# Altium schematic symbol library kmilo17pet-LT_ChargePump.SchLib: 599 symbols (part 7 of 29)
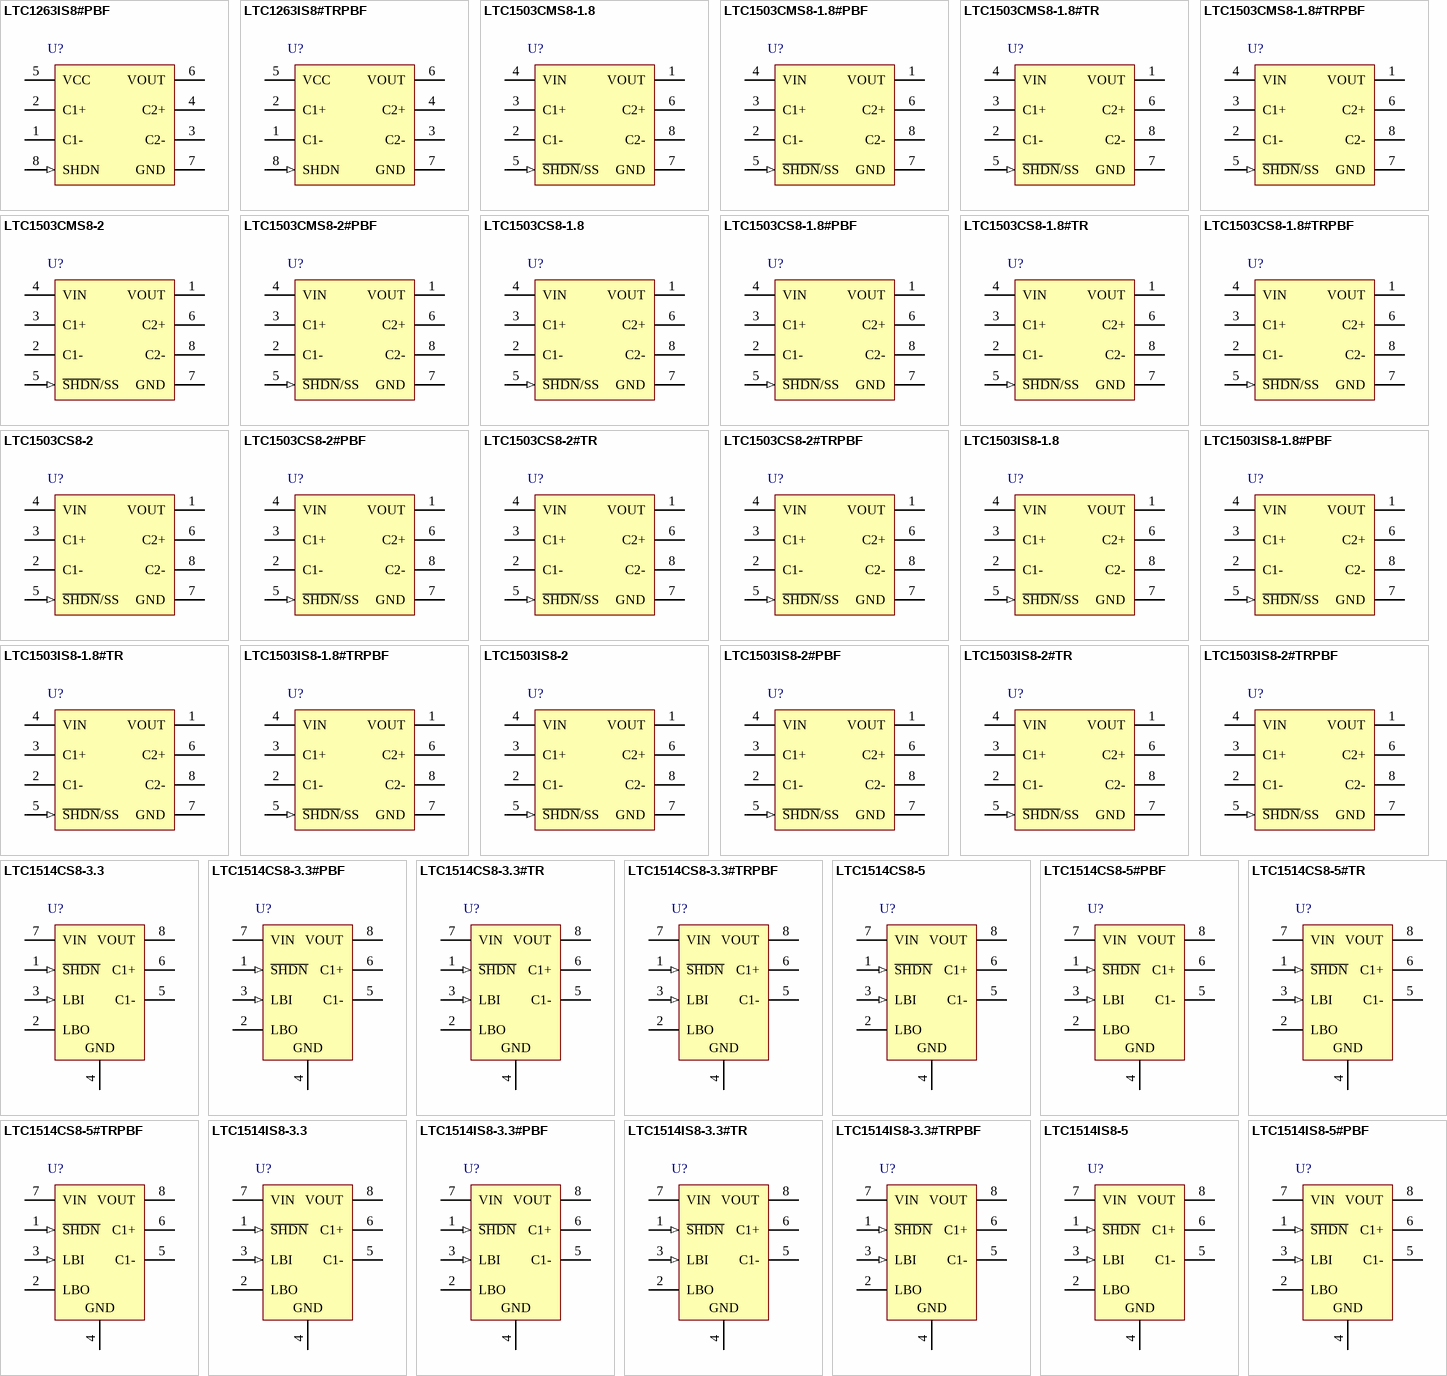
[diagram p22: symbols LTC1263IS8#PBF to LTC1514IS8-5#PBF]

## LTC1503CMS8-2
designator U?
High Efficiency Inductorless Step-Down DC/DC Converter, 2.4 to 6 V Vin, 2 V Vout, 8-pin SOP (MS8-8), -40 to 85 degC; Manufacturer: Linear Technology; PartNumber: LTC1503CMS8-2; Frequency(kHz): 600; Ishutdown(uA): 5; Isupply(mA): 0.025; Max Iout(mA): 100; Vin Max(V): 6; Vin Min(V): 2.4; Voutput: 2V; PackageVersion: Rev. G, 03/2012; PackageReference: MS8-8; PackageDescription: 8-Pin Plastic MSOP, Body 3 x 3 mm, Pitch 0.65 mm; Supplier 1: Digi-Key; Supplier Part Number 1: LTC1503CMS8-2-ND; RoHS: FALSE; Mounting Technology: Surface Mount; ComponentLink1Description: Manufacturer URL; ComponentLink1URL: http://www.linear.com/; ComponentLink2Description: Datasheet; ComponentLink2URL: http://cds.linear.com/docs/en/datasheet/1503f.pdf; ComponentLink3Description: Package Specification; ComponentLink3URL: http://cds.linear.com/docs/en/packaging/05081660_G_MS8.pdf
footprint LT-MS8-8_N (SOP, 8-Leads, Body 3.1x3.1mm, Pitch 0.65mm, IPC Medium Density)
footprint LT-MS8-8_L (SOP, 8-Leads, Body 3.1x3.1mm, Pitch 0.65mm, IPC High Density)
footprint LT-MS8-8_M (SOP, 8-Leads, Body 3.1x3.1mm, Pitch 0.65mm, IPC Low Density)
pins: 1 VOUT (power) "Regulated Output Voltage. VOUT is disconnected from VIN during shutdown. Bypass VOUT to ground with a >=10uF low ESR capacitor.", 2 C1- "Flying Capacitor One Negative Terminal.", 3 C1+ "Flying Capacitor One Positive Terminal.", 4 VIN (power) "Input Voltage. VIN may be between 2.4V and 6V. Bypass VIN to ground with a >=10uF low ESR capacitor.", 5 ~{SHDN}/SS (in) "Shutdown/Soft-Start Control. The pin is designed to be driven with an external open-drain output. Holding the S\H\D\N\/SS pin below 0.25V will force the part into shutdown mode. An internal pull-up current of 2uA will force (See Datasheet)", 6 C2+ "Flying Capacitor Two Positive Terminal.", 7 GND (power) "Ground. Connect to a ground plane for best performance.", 8 C2- "Flying Capacitor Two Negative Terminal."

## LTC1503CMS8-2#PBF
designator U?
High Efficiency Inductorless Step-Down DC/DC Converter, 2.4 to 6 V Vin, 2 V Vout, 8-pin SOP (MS8-8), -40 to 85 degC, Pb-Free; Manufacturer: Linear Technology; PartNumber: LTC1503CMS8-2#PBF; Frequency(kHz): 600; Ishutdown(uA): 5; Isupply(mA): 0.025; Max Iout(mA): 100; Vin Max(V): 6; Vin Min(V): 2.4; Voutput: 2V; PackageVersion: Rev. G, 03/2012; PackageReference: MS8-8; PackageDescription: 8-Pin Plastic MSOP, Body 3 x 3 mm, Pitch 0.65 mm; Supplier 1: Digi-Key; Supplier Part Number 1: LTC1503CMS8-2#PBF-ND; RoHS: TRUE; Mounting Technology: Surface Mount; ComponentLink1Description: Manufacturer URL; ComponentLink1URL: http://www.linear.com/; ComponentLink2Description: Datasheet; ComponentLink2URL: http://cds.linear.com/docs/en/datasheet/1503f.pdf; ComponentLink3Description: Package Specification; ComponentLink3URL: http://cds.linear.com/docs/en/packaging/05081660_G_MS8.pdf
footprint LT-MS8-8_N (SOP, 8-Leads, Body 3.1x3.1mm, Pitch 0.65mm, IPC Medium Density)
footprint LT-MS8-8_L (SOP, 8-Leads, Body 3.1x3.1mm, Pitch 0.65mm, IPC High Density)
footprint LT-MS8-8_M (SOP, 8-Leads, Body 3.1x3.1mm, Pitch 0.65mm, IPC Low Density)
pins: 1 VOUT (power) "Regulated Output Voltage. VOUT is disconnected from VIN during shutdown. Bypass VOUT to ground with a >=10uF low ESR capacitor.", 2 C1- "Flying Capacitor One Negative Terminal.", 3 C1+ "Flying Capacitor One Positive Terminal.", 4 VIN (power) "Input Voltage. VIN may be between 2.4V and 6V. Bypass VIN to ground with a >=10uF low ESR capacitor.", 5 ~{SHDN}/SS (in) "Shutdown/Soft-Start Control. The pin is designed to be driven with an external open-drain output. Holding the S\H\D\N\/SS pin below 0.25V will force the part into shutdown mode. An internal pull-up current of 2uA will force (See Datasheet)", 6 C2+ "Flying Capacitor Two Positive Terminal.", 7 GND (power) "Ground. Connect to a ground plane for best performance.", 8 C2- "Flying Capacitor Two Negative Terminal."

## LTC1503CS8-1.8
designator U?
High Efficiency Inductorless Step-Down DC/DC Converter, 2.4 to 6 V Vin, 1.8 V Vout, 8-pin SOIC (S8-8), -40 to 85 degC; Manufacturer: Linear Technology; PartNumber: LTC1503CS8-1.8; Frequency(kHz): 600; Ishutdown(uA): 5; Isupply(mA): 0.025; Max Iout(mA): 100; Vin Max(V): 6; Vin Min(V): 2.4; Voutput: 1.8V; PackageVersion: Rev. G, 03/2012; PackageReference: S8-8; PackageDescription: 8-Pin Plastic Small Outline (Narrow .150 Inch), Body 4.9 x 3.9 mm, Pitch 1.27 mm; Supplier 1: Digi-Key; Supplier Part Number 1: LTC1503CS8-1.8-ND; RoHS: FALSE; Mounting Technology: Surface Mount; ComponentLink1Description: Manufacturer URL; ComponentLink1URL: http://www.linear.com/; ComponentLink2Description: Datasheet; ComponentLink2URL: http://cds.linear.com/docs/en/datasheet/1503f.pdf; ComponentLink3Description: Package Specification; ComponentLink3URL: http://cds.linear.com/docs/en/packaging/05081610_G_SO8.pdf
footprint LT-S8-8_N (SOIC, 8-Leads, Body 5x4mm, Pitch 1.27mm, IPC Medium Density)
footprint LT-S8-8_L (SOIC, 8-Leads, Body 5x4mm, Pitch 1.27mm, IPC High Density)
footprint LT-S8-8_M (SOIC, 8-Leads, Body 5x4mm, Pitch 1.27mm, IPC Low Density)
pins: 1 VOUT (power) "Regulated Output Voltage. VOUT is disconnected from VIN during shutdown. Bypass VOUT to ground with a >=10uF low ESR capacitor.", 2 C1- "Flying Capacitor One Negative Terminal.", 3 C1+ "Flying Capacitor One Positive Terminal.", 4 VIN (power) "Input Voltage. VIN may be between 2.4V and 6V. Bypass VIN to ground with a >=10uF low ESR capacitor.", 5 ~{SHDN}/SS (in) "Shutdown/Soft-Start Control. The pin is designed to be driven with an external open-drain output. Holding the S\H\D\N\/SS pin below 0.25V will force the part into shutdown mode. An internal pull-up current of 2uA will force (See Datasheet)", 6 C2+ "Flying Capacitor Two Positive Terminal.", 7 GND (power) "Ground. Connect to a ground plane for best performance.", 8 C2- "Flying Capacitor Two Negative Terminal."

## LTC1503CS8-1.8#PBF
designator U?
High Efficiency Inductorless Step-Down DC/DC Converter, 2.4 to 6 V Vin, 1.8 V Vout, 8-pin SOIC (S8-8), -40 to 85 degC, Pb-Free; Manufacturer: Linear Technology; PartNumber: LTC1503CS8-1.8#PBF; Frequency(kHz): 600; Ishutdown(uA): 5; Isupply(mA): 0.025; Max Iout(mA): 100; Vin Max(V): 6; Vin Min(V): 2.4; Voutput: 1.8V; PackageVersion: Rev. G, 03/2012; PackageReference: S8-8; PackageDescription: 8-Pin Plastic Small Outline (Narrow .150 Inch), Body 4.9 x 3.9 mm, Pitch 1.27 mm; Supplier 1: Digi-Key; Supplier Part Number 1: LTC1503CS8-1.8#PBF-ND; RoHS: TRUE; Mounting Technology: Surface Mount; ComponentLink1Description: Manufacturer URL; ComponentLink1URL: http://www.linear.com/; ComponentLink2Description: Datasheet; ComponentLink2URL: http://cds.linear.com/docs/en/datasheet/1503f.pdf; ComponentLink3Description: Package Specification; ComponentLink3URL: http://cds.linear.com/docs/en/packaging/05081610_G_SO8.pdf
footprint LT-S8-8_N (SOIC, 8-Leads, Body 5x4mm, Pitch 1.27mm, IPC Medium Density)
footprint LT-S8-8_L (SOIC, 8-Leads, Body 5x4mm, Pitch 1.27mm, IPC High Density)
footprint LT-S8-8_M (SOIC, 8-Leads, Body 5x4mm, Pitch 1.27mm, IPC Low Density)
pins: 1 VOUT (power) "Regulated Output Voltage. VOUT is disconnected from VIN during shutdown. Bypass VOUT to ground with a >=10uF low ESR capacitor.", 2 C1- "Flying Capacitor One Negative Terminal.", 3 C1+ "Flying Capacitor One Positive Terminal.", 4 VIN (power) "Input Voltage. VIN may be between 2.4V and 6V. Bypass VIN to ground with a >=10uF low ESR capacitor.", 5 ~{SHDN}/SS (in) "Shutdown/Soft-Start Control. The pin is designed to be driven with an external open-drain output. Holding the S\H\D\N\/SS pin below 0.25V will force the part into shutdown mode. An internal pull-up current of 2uA will force (See Datasheet)", 6 C2+ "Flying Capacitor Two Positive Terminal.", 7 GND (power) "Ground. Connect to a ground plane for best performance.", 8 C2- "Flying Capacitor Two Negative Terminal."

## LTC1503CS8-1.8#TR
designator U?
High Efficiency Inductorless Step-Down DC/DC Converter, 2.4 to 6 V Vin, 1.8 V Vout, 8-pin SOIC (S8-8), -40 to 85 degC, Tape and Reel; Manufacturer: Linear Technology; PartNumber: LTC1503CS8-1.8#TR; Frequency(kHz): 600; Ishutdown(uA): 5; Isupply(mA): 0.025; Max Iout(mA): 100; Vin Max(V): 6; Vin Min(V): 2.4; Voutput: 1.8V; PackageVersion: Rev. G, 03/2012; PackageReference: S8-8; PackageDescription: 8-Pin Plastic Small Outline (Narrow .150 Inch), Body 4.9 x 3.9 mm, Pitch 1.27 mm; Supplier 1: Digi-Key; Supplier Part Number 1: LTC1503CS8-1.8#TR-ND; Packing: Tape and Reel; RoHS: FALSE; Mounting Technology: Surface Mount; ComponentLink1Description: Manufacturer URL; ComponentLink1URL: http://www.linear.com/; ComponentLink2Description: Datasheet; ComponentLink2URL: http://cds.linear.com/docs/en/datasheet/1503f.pdf; ComponentLink3Description: Package Specification; ComponentLink3URL: http://cds.linear.com/docs/en/packaging/05081610_G_SO8.pdf
footprint LT-S8-8_N (SOIC, 8-Leads, Body 5x4mm, Pitch 1.27mm, IPC Medium Density)
footprint LT-S8-8_L (SOIC, 8-Leads, Body 5x4mm, Pitch 1.27mm, IPC High Density)
footprint LT-S8-8_M (SOIC, 8-Leads, Body 5x4mm, Pitch 1.27mm, IPC Low Density)
pins: 1 VOUT (power) "Regulated Output Voltage. VOUT is disconnected from VIN during shutdown. Bypass VOUT to ground with a >=10uF low ESR capacitor.", 2 C1- "Flying Capacitor One Negative Terminal.", 3 C1+ "Flying Capacitor One Positive Terminal.", 4 VIN (power) "Input Voltage. VIN may be between 2.4V and 6V. Bypass VIN to ground with a >=10uF low ESR capacitor.", 5 ~{SHDN}/SS (in) "Shutdown/Soft-Start Control. The pin is designed to be driven with an external open-drain output. Holding the S\H\D\N\/SS pin below 0.25V will force the part into shutdown mode. An internal pull-up current of 2uA will force (See Datasheet)", 6 C2+ "Flying Capacitor Two Positive Terminal.", 7 GND (power) "Ground. Connect to a ground plane for best performance.", 8 C2- "Flying Capacitor Two Negative Terminal."

## LTC1503CS8-1.8#TRPBF
designator U?
High Efficiency Inductorless Step-Down DC/DC Converter, 2.4 to 6 V Vin, 1.8 V Vout, 8-pin SOIC (S8-8), -40 to 85 degC, Pb-Free, Tape and Reel; Manufacturer: Linear Technology; PartNumber: LTC1503CS8-1.8#TRPBF; Frequency(kHz): 600; Ishutdown(uA): 5; Isupply(mA): 0.025; Max Iout(mA): 100; Vin Max(V): 6; Vin Min(V): 2.4; Voutput: 1.8V; PackageVersion: Rev. G, 03/2012; PackageReference: S8-8; PackageDescription: 8-Pin Plastic Small Outline (Narrow .150 Inch), Body 4.9 x 3.9 mm, Pitch 1.27 mm; Supplier 1: Digi-Key; Supplier Part Number 1: LTC1503CS8-1.8#TRPBF-ND; Packing: Tape and Reel; RoHS: TRUE; Mounting Technology: Surface Mount; ComponentLink1Description: Manufacturer URL; ComponentLink1URL: http://www.linear.com/; ComponentLink2Description: Datasheet; ComponentLink2URL: http://cds.linear.com/docs/en/datasheet/1503f.pdf; ComponentLink3Description: Package Specification; ComponentLink3URL: http://cds.linear.com/docs/en/packaging/05081610_G_SO8.pdf
footprint LT-S8-8_N (SOIC, 8-Leads, Body 5x4mm, Pitch 1.27mm, IPC Medium Density)
footprint LT-S8-8_L (SOIC, 8-Leads, Body 5x4mm, Pitch 1.27mm, IPC High Density)
footprint LT-S8-8_M (SOIC, 8-Leads, Body 5x4mm, Pitch 1.27mm, IPC Low Density)
pins: 1 VOUT (power) "Regulated Output Voltage. VOUT is disconnected from VIN during shutdown. Bypass VOUT to ground with a >=10uF low ESR capacitor.", 2 C1- "Flying Capacitor One Negative Terminal.", 3 C1+ "Flying Capacitor One Positive Terminal.", 4 VIN (power) "Input Voltage. VIN may be between 2.4V and 6V. Bypass VIN to ground with a >=10uF low ESR capacitor.", 5 ~{SHDN}/SS (in) "Shutdown/Soft-Start Control. The pin is designed to be driven with an external open-drain output. Holding the S\H\D\N\/SS pin below 0.25V will force the part into shutdown mode. An internal pull-up current of 2uA will force (See Datasheet)", 6 C2+ "Flying Capacitor Two Positive Terminal.", 7 GND (power) "Ground. Connect to a ground plane for best performance.", 8 C2- "Flying Capacitor Two Negative Terminal."

## LTC1503CS8-2
designator U?
High Efficiency Inductorless Step-Down DC/DC Converter, 2.4 to 6 V Vin, 2 V Vout, 8-pin SOIC (S8-8), -40 to 85 degC; Manufacturer: Linear Technology; PartNumber: LTC1503CS8-2; Frequency(kHz): 600; Ishutdown(uA): 5; Isupply(mA): 0.025; Max Iout(mA): 100; Vin Max(V): 6; Vin Min(V): 2.4; Voutput: 2V; PackageVersion: Rev. G, 03/2012; PackageReference: S8-8; PackageDescription: 8-Pin Plastic Small Outline (Narrow .150 Inch), Body 4.9 x 3.9 mm, Pitch 1.27 mm; Supplier 1: Digi-Key; Supplier Part Number 1: LTC1503CS8-2-ND; RoHS: FALSE; Mounting Technology: Surface Mount; ComponentLink1Description: Manufacturer URL; ComponentLink1URL: http://www.linear.com/; ComponentLink2Description: Datasheet; ComponentLink2URL: http://cds.linear.com/docs/en/datasheet/1503f.pdf; ComponentLink3Description: Package Specification; ComponentLink3URL: http://cds.linear.com/docs/en/packaging/05081610_G_SO8.pdf
footprint LT-S8-8_N (SOIC, 8-Leads, Body 5x4mm, Pitch 1.27mm, IPC Medium Density)
footprint LT-S8-8_L (SOIC, 8-Leads, Body 5x4mm, Pitch 1.27mm, IPC High Density)
footprint LT-S8-8_M (SOIC, 8-Leads, Body 5x4mm, Pitch 1.27mm, IPC Low Density)
pins: 1 VOUT (power) "Regulated Output Voltage. VOUT is disconnected from VIN during shutdown. Bypass VOUT to ground with a >=10uF low ESR capacitor.", 2 C1- "Flying Capacitor One Negative Terminal.", 3 C1+ "Flying Capacitor One Positive Terminal.", 4 VIN (power) "Input Voltage. VIN may be between 2.4V and 6V. Bypass VIN to ground with a >=10uF low ESR capacitor.", 5 ~{SHDN}/SS (in) "Shutdown/Soft-Start Control. The pin is designed to be driven with an external open-drain output. Holding the S\H\D\N\/SS pin below 0.25V will force the part into shutdown mode. An internal pull-up current of 2uA will force (See Datasheet)", 6 C2+ "Flying Capacitor Two Positive Terminal.", 7 GND (power) "Ground. Connect to a ground plane for best performance.", 8 C2- "Flying Capacitor Two Negative Terminal."

## LTC1503CS8-2#PBF
designator U?
High Efficiency Inductorless Step-Down DC/DC Converter, 2.4 to 6 V Vin, 2 V Vout, 8-pin SOIC (S8-8), -40 to 85 degC, Pb-Free; Manufacturer: Linear Technology; PartNumber: LTC1503CS8-2#PBF; Frequency(kHz): 600; Ishutdown(uA): 5; Isupply(mA): 0.025; Max Iout(mA): 100; Vin Max(V): 6; Vin Min(V): 2.4; Voutput: 2V; PackageVersion: Rev. G, 03/2012; PackageReference: S8-8; PackageDescription: 8-Pin Plastic Small Outline (Narrow .150 Inch), Body 4.9 x 3.9 mm, Pitch 1.27 mm; Supplier 1: Digi-Key; Supplier Part Number 1: LTC1503CS8-2#PBF-ND; RoHS: TRUE; Mounting Technology: Surface Mount; ComponentLink1Description: Manufacturer URL; ComponentLink1URL: http://www.linear.com/; ComponentLink2Description: Datasheet; ComponentLink2URL: http://cds.linear.com/docs/en/datasheet/1503f.pdf; ComponentLink3Description: Package Specification; ComponentLink3URL: http://cds.linear.com/docs/en/packaging/05081610_G_SO8.pdf
footprint LT-S8-8_N (SOIC, 8-Leads, Body 5x4mm, Pitch 1.27mm, IPC Medium Density)
footprint LT-S8-8_L (SOIC, 8-Leads, Body 5x4mm, Pitch 1.27mm, IPC High Density)
footprint LT-S8-8_M (SOIC, 8-Leads, Body 5x4mm, Pitch 1.27mm, IPC Low Density)
pins: 1 VOUT (power) "Regulated Output Voltage. VOUT is disconnected from VIN during shutdown. Bypass VOUT to ground with a >=10uF low ESR capacitor.", 2 C1- "Flying Capacitor One Negative Terminal.", 3 C1+ "Flying Capacitor One Positive Terminal.", 4 VIN (power) "Input Voltage. VIN may be between 2.4V and 6V. Bypass VIN to ground with a >=10uF low ESR capacitor.", 5 ~{SHDN}/SS (in) "Shutdown/Soft-Start Control. The pin is designed to be driven with an external open-drain output. Holding the S\H\D\N\/SS pin below 0.25V will force the part into shutdown mode. An internal pull-up current of 2uA will force (See Datasheet)", 6 C2+ "Flying Capacitor Two Positive Terminal.", 7 GND (power) "Ground. Connect to a ground plane for best performance.", 8 C2- "Flying Capacitor Two Negative Terminal."

## LTC1503CS8-2#TR
designator U?
High Efficiency Inductorless Step-Down DC/DC Converter, 2.4 to 6 V Vin, 2 V Vout, 8-pin SOIC (S8-8), -40 to 85 degC, Tape and Reel; Manufacturer: Linear Technology; PartNumber: LTC1503CS8-2#TR; Frequency(kHz): 600; Ishutdown(uA): 5; Isupply(mA): 0.025; Max Iout(mA): 100; Vin Max(V): 6; Vin Min(V): 2.4; Voutput: 2V; PackageVersion: Rev. G, 03/2012; PackageReference: S8-8; PackageDescription: 8-Pin Plastic Small Outline (Narrow .150 Inch), Body 4.9 x 3.9 mm, Pitch 1.27 mm; Supplier 1: Digi-Key; Supplier Part Number 1: LTC1503CS8-2#TR-ND; Packing: Tape and Reel; RoHS: FALSE; Mounting Technology: Surface Mount; ComponentLink1Description: Manufacturer URL; ComponentLink1URL: http://www.linear.com/; ComponentLink2Description: Datasheet; ComponentLink2URL: http://cds.linear.com/docs/en/datasheet/1503f.pdf; ComponentLink3Description: Package Specification; ComponentLink3URL: http://cds.linear.com/docs/en/packaging/05081610_G_SO8.pdf
footprint LT-S8-8_N (SOIC, 8-Leads, Body 5x4mm, Pitch 1.27mm, IPC Medium Density)
footprint LT-S8-8_L (SOIC, 8-Leads, Body 5x4mm, Pitch 1.27mm, IPC High Density)
footprint LT-S8-8_M (SOIC, 8-Leads, Body 5x4mm, Pitch 1.27mm, IPC Low Density)
pins: 1 VOUT (power) "Regulated Output Voltage. VOUT is disconnected from VIN during shutdown. Bypass VOUT to ground with a >=10uF low ESR capacitor.", 2 C1- "Flying Capacitor One Negative Terminal.", 3 C1+ "Flying Capacitor One Positive Terminal.", 4 VIN (power) "Input Voltage. VIN may be between 2.4V and 6V. Bypass VIN to ground with a >=10uF low ESR capacitor.", 5 ~{SHDN}/SS (in) "Shutdown/Soft-Start Control. The pin is designed to be driven with an external open-drain output. Holding the S\H\D\N\/SS pin below 0.25V will force the part into shutdown mode. An internal pull-up current of 2uA will force (See Datasheet)", 6 C2+ "Flying Capacitor Two Positive Terminal.", 7 GND (power) "Ground. Connect to a ground plane for best performance.", 8 C2- "Flying Capacitor Two Negative Terminal."

## LTC1503CS8-2#TRPBF
designator U?
High Efficiency Inductorless Step-Down DC/DC Converter, 2.4 to 6 V Vin, 2 V Vout, 8-pin SOIC (S8-8), -40 to 85 degC, Pb-Free, Tape and Reel; Manufacturer: Linear Technology; PartNumber: LTC1503CS8-2#TRPBF; Frequency(kHz): 600; Ishutdown(uA): 5; Isupply(mA): 0.025; Max Iout(mA): 100; Vin Max(V): 6; Vin Min(V): 2.4; Voutput: 2V; PackageVersion: Rev. G, 03/2012; PackageReference: S8-8; PackageDescription: 8-Pin Plastic Small Outline (Narrow .150 Inch), Body 4.9 x 3.9 mm, Pitch 1.27 mm; Supplier 1: Digi-Key; Supplier Part Number 1: LTC1503CS8-2#TRPBF-ND; Packing: Tape and Reel; RoHS: TRUE; Mounting Technology: Surface Mount; ComponentLink1Description: Manufacturer URL; ComponentLink1URL: http://www.linear.com/; ComponentLink2Description: Datasheet; ComponentLink2URL: http://cds.linear.com/docs/en/datasheet/1503f.pdf; ComponentLink3Description: Package Specification; ComponentLink3URL: http://cds.linear.com/docs/en/packaging/05081610_G_SO8.pdf
footprint LT-S8-8_N (SOIC, 8-Leads, Body 5x4mm, Pitch 1.27mm, IPC Medium Density)
footprint LT-S8-8_L (SOIC, 8-Leads, Body 5x4mm, Pitch 1.27mm, IPC High Density)
footprint LT-S8-8_M (SOIC, 8-Leads, Body 5x4mm, Pitch 1.27mm, IPC Low Density)
pins: 1 VOUT (power) "Regulated Output Voltage. VOUT is disconnected from VIN during shutdown. Bypass VOUT to ground with a >=10uF low ESR capacitor.", 2 C1- "Flying Capacitor One Negative Terminal.", 3 C1+ "Flying Capacitor One Positive Terminal.", 4 VIN (power) "Input Voltage. VIN may be between 2.4V and 6V. Bypass VIN to ground with a >=10uF low ESR capacitor.", 5 ~{SHDN}/SS (in) "Shutdown/Soft-Start Control. The pin is designed to be driven with an external open-drain output. Holding the S\H\D\N\/SS pin below 0.25V will force the part into shutdown mode. An internal pull-up current of 2uA will force (See Datasheet)", 6 C2+ "Flying Capacitor Two Positive Terminal.", 7 GND (power) "Ground. Connect to a ground plane for best performance.", 8 C2- "Flying Capacitor Two Negative Terminal."

## LTC1503IS8-1.8
designator U?
High Efficiency Inductorless Step-Down DC/DC Converter, 2.4 to 6 V Vin, 1.8 V Vout, 8-pin SOIC (S8-8), -40 to 85 degC; Manufacturer: Linear Technology; PartNumber: LTC1503IS8-1.8; Frequency(kHz): 600; Ishutdown(uA): 5; Isupply(mA): 0.025; Max Iout(mA): 100; Vin Max(V): 6; Vin Min(V): 2.4; Voutput: 1.8V; PackageVersion: Rev. G, 03/2012; PackageReference: S8-8; PackageDescription: 8-Pin Plastic Small Outline (Narrow .150 Inch), Body 4.9 x 3.9 mm, Pitch 1.27 mm; Supplier 1: Digi-Key; Supplier Part Number 1: LTC1503IS8-1.8-ND; RoHS: FALSE; Mounting Technology: Surface Mount; ComponentLink1Description: Manufacturer URL; ComponentLink1URL: http://www.linear.com/; ComponentLink2Description: Datasheet; ComponentLink2URL: http://cds.linear.com/docs/en/datasheet/1503f.pdf; ComponentLink3Description: Package Specification; ComponentLink3URL: http://cds.linear.com/docs/en/packaging/05081610_G_SO8.pdf
footprint LT-S8-8_N (SOIC, 8-Leads, Body 5x4mm, Pitch 1.27mm, IPC Medium Density)
footprint LT-S8-8_L (SOIC, 8-Leads, Body 5x4mm, Pitch 1.27mm, IPC High Density)
footprint LT-S8-8_M (SOIC, 8-Leads, Body 5x4mm, Pitch 1.27mm, IPC Low Density)
pins: 1 VOUT (power) "Regulated Output Voltage. VOUT is disconnected from VIN during shutdown. Bypass VOUT to ground with a >=10uF low ESR capacitor.", 2 C1- "Flying Capacitor One Negative Terminal.", 3 C1+ "Flying Capacitor One Positive Terminal.", 4 VIN (power) "Input Voltage. VIN may be between 2.4V and 6V. Bypass VIN to ground with a >=10uF low ESR capacitor.", 5 ~{SHDN}/SS (in) "Shutdown/Soft-Start Control. The pin is designed to be driven with an external open-drain output. Holding the S\H\D\N\/SS pin below 0.25V will force the part into shutdown mode. An internal pull-up current of 2uA will force (See Datasheet)", 6 C2+ "Flying Capacitor Two Positive Terminal.", 7 GND (power) "Ground. Connect to a ground plane for best performance.", 8 C2- "Flying Capacitor Two Negative Terminal."

## LTC1503IS8-1.8#PBF
designator U?
High Efficiency Inductorless Step-Down DC/DC Converter, 2.4 to 6 V Vin, 1.8 V Vout, 8-pin SOIC (S8-8), -40 to 85 degC, Pb-Free; Manufacturer: Linear Technology; PartNumber: LTC1503IS8-1.8#PBF; Frequency(kHz): 600; Ishutdown(uA): 5; Isupply(mA): 0.025; Max Iout(mA): 100; Vin Max(V): 6; Vin Min(V): 2.4; Voutput: 1.8V; PackageVersion: Rev. G, 03/2012; PackageReference: S8-8; PackageDescription: 8-Pin Plastic Small Outline (Narrow .150 Inch), Body 4.9 x 3.9 mm, Pitch 1.27 mm; Supplier 1: Digi-Key; Supplier Part Number 1: LTC1503IS8-1.8#PBF-ND; RoHS: TRUE; Mounting Technology: Surface Mount; ComponentLink1Description: Manufacturer URL; ComponentLink1URL: http://www.linear.com/; ComponentLink2Description: Datasheet; ComponentLink2URL: http://cds.linear.com/docs/en/datasheet/1503f.pdf; ComponentLink3Description: Package Specification; ComponentLink3URL: http://cds.linear.com/docs/en/packaging/05081610_G_SO8.pdf
footprint LT-S8-8_N (SOIC, 8-Leads, Body 5x4mm, Pitch 1.27mm, IPC Medium Density)
footprint LT-S8-8_L (SOIC, 8-Leads, Body 5x4mm, Pitch 1.27mm, IPC High Density)
footprint LT-S8-8_M (SOIC, 8-Leads, Body 5x4mm, Pitch 1.27mm, IPC Low Density)
pins: 1 VOUT (power) "Regulated Output Voltage. VOUT is disconnected from VIN during shutdown. Bypass VOUT to ground with a >=10uF low ESR capacitor.", 2 C1- "Flying Capacitor One Negative Terminal.", 3 C1+ "Flying Capacitor One Positive Terminal.", 4 VIN (power) "Input Voltage. VIN may be between 2.4V and 6V. Bypass VIN to ground with a >=10uF low ESR capacitor.", 5 ~{SHDN}/SS (in) "Shutdown/Soft-Start Control. The pin is designed to be driven with an external open-drain output. Holding the S\H\D\N\/SS pin below 0.25V will force the part into shutdown mode. An internal pull-up current of 2uA will force (See Datasheet)", 6 C2+ "Flying Capacitor Two Positive Terminal.", 7 GND (power) "Ground. Connect to a ground plane for best performance.", 8 C2- "Flying Capacitor Two Negative Terminal."

## LTC1503IS8-1.8#TR
designator U?
High Efficiency Inductorless Step-Down DC/DC Converter, 2.4 to 6 V Vin, 1.8 V Vout, 8-pin SOIC (S8-8), -40 to 85 degC, Tape and Reel; Manufacturer: Linear Technology; PartNumber: LTC1503IS8-1.8#TR; Frequency(kHz): 600; Ishutdown(uA): 5; Isupply(mA): 0.025; Max Iout(mA): 100; Vin Max(V): 6; Vin Min(V): 2.4; Voutput: 1.8V; PackageVersion: Rev. G, 03/2012; PackageReference: S8-8; PackageDescription: 8-Pin Plastic Small Outline (Narrow .150 Inch), Body 4.9 x 3.9 mm, Pitch 1.27 mm; Supplier 1: Digi-Key; Supplier Part Number 1: LTC1503IS8-1.8#TR-ND; Packing: Tape and Reel; RoHS: FALSE; Mounting Technology: Surface Mount; ComponentLink1Description: Manufacturer URL; ComponentLink1URL: http://www.linear.com/; ComponentLink2Description: Datasheet; ComponentLink2URL: http://cds.linear.com/docs/en/datasheet/1503f.pdf; ComponentLink3Description: Package Specification; ComponentLink3URL: http://cds.linear.com/docs/en/packaging/05081610_G_SO8.pdf
footprint LT-S8-8_N (SOIC, 8-Leads, Body 5x4mm, Pitch 1.27mm, IPC Medium Density)
footprint LT-S8-8_L (SOIC, 8-Leads, Body 5x4mm, Pitch 1.27mm, IPC High Density)
footprint LT-S8-8_M (SOIC, 8-Leads, Body 5x4mm, Pitch 1.27mm, IPC Low Density)
pins: 1 VOUT (power) "Regulated Output Voltage. VOUT is disconnected from VIN during shutdown. Bypass VOUT to ground with a >=10uF low ESR capacitor.", 2 C1- "Flying Capacitor One Negative Terminal.", 3 C1+ "Flying Capacitor One Positive Terminal.", 4 VIN (power) "Input Voltage. VIN may be between 2.4V and 6V. Bypass VIN to ground with a >=10uF low ESR capacitor.", 5 ~{SHDN}/SS (in) "Shutdown/Soft-Start Control. The pin is designed to be driven with an external open-drain output. Holding the S\H\D\N\/SS pin below 0.25V will force the part into shutdown mode. An internal pull-up current of 2uA will force (See Datasheet)", 6 C2+ "Flying Capacitor Two Positive Terminal.", 7 GND (power) "Ground. Connect to a ground plane for best performance.", 8 C2- "Flying Capacitor Two Negative Terminal."

## LTC1503IS8-1.8#TRPBF
designator U?
High Efficiency Inductorless Step-Down DC/DC Converter, 2.4 to 6 V Vin, 1.8 V Vout, 8-pin SOIC (S8-8), -40 to 85 degC, Pb-Free, Tape and Reel; Manufacturer: Linear Technology; PartNumber: LTC1503IS8-1.8#TRPBF; Frequency(kHz): 600; Ishutdown(uA): 5; Isupply(mA): 0.025; Max Iout(mA): 100; Vin Max(V): 6; Vin Min(V): 2.4; Voutput: 1.8V; PackageVersion: Rev. G, 03/2012; PackageReference: S8-8; PackageDescription: 8-Pin Plastic Small Outline (Narrow .150 Inch), Body 4.9 x 3.9 mm, Pitch 1.27 mm; Supplier 1: Digi-Key; Supplier Part Number 1: LTC1503IS8-1.8#TRPBF-ND; Packing: Tape and Reel; RoHS: TRUE; Mounting Technology: Surface Mount; ComponentLink1Description: Manufacturer URL; ComponentLink1URL: http://www.linear.com/; ComponentLink2Description: Datasheet; ComponentLink2URL: http://cds.linear.com/docs/en/datasheet/1503f.pdf; ComponentLink3Description: Package Specification; ComponentLink3URL: http://cds.linear.com/docs/en/packaging/05081610_G_SO8.pdf
footprint LT-S8-8_N (SOIC, 8-Leads, Body 5x4mm, Pitch 1.27mm, IPC Medium Density)
footprint LT-S8-8_L (SOIC, 8-Leads, Body 5x4mm, Pitch 1.27mm, IPC High Density)
footprint LT-S8-8_M (SOIC, 8-Leads, Body 5x4mm, Pitch 1.27mm, IPC Low Density)
pins: 1 VOUT (power) "Regulated Output Voltage. VOUT is disconnected from VIN during shutdown. Bypass VOUT to ground with a >=10uF low ESR capacitor.", 2 C1- "Flying Capacitor One Negative Terminal.", 3 C1+ "Flying Capacitor One Positive Terminal.", 4 VIN (power) "Input Voltage. VIN may be between 2.4V and 6V. Bypass VIN to ground with a >=10uF low ESR capacitor.", 5 ~{SHDN}/SS (in) "Shutdown/Soft-Start Control. The pin is designed to be driven with an external open-drain output. Holding the S\H\D\N\/SS pin below 0.25V will force the part into shutdown mode. An internal pull-up current of 2uA will force (See Datasheet)", 6 C2+ "Flying Capacitor Two Positive Terminal.", 7 GND (power) "Ground. Connect to a ground plane for best performance.", 8 C2- "Flying Capacitor Two Negative Terminal."

## LTC1503IS8-2
designator U?
High Efficiency Inductorless Step-Down DC/DC Converter, 2.4 to 6 V Vin, 2 V Vout, 8-pin SOIC (S8-8), -40 to 85 degC; Manufacturer: Linear Technology; PartNumber: LTC1503IS8-2; Frequency(kHz): 600; Ishutdown(uA): 5; Isupply(mA): 0.025; Max Iout(mA): 100; Vin Max(V): 6; Vin Min(V): 2.4; Voutput: 2V; PackageVersion: Rev. G, 03/2012; PackageReference: S8-8; PackageDescription: 8-Pin Plastic Small Outline (Narrow .150 Inch), Body 4.9 x 3.9 mm, Pitch 1.27 mm; Supplier 1: Digi-Key; Supplier Part Number 1: LTC1503IS8-2-ND; RoHS: FALSE; Mounting Technology: Surface Mount; ComponentLink1Description: Manufacturer URL; ComponentLink1URL: http://www.linear.com/; ComponentLink2Description: Datasheet; ComponentLink2URL: http://cds.linear.com/docs/en/datasheet/1503f.pdf; ComponentLink3Description: Package Specification; ComponentLink3URL: http://cds.linear.com/docs/en/packaging/05081610_G_SO8.pdf
footprint LT-S8-8_N (SOIC, 8-Leads, Body 5x4mm, Pitch 1.27mm, IPC Medium Density)
footprint LT-S8-8_L (SOIC, 8-Leads, Body 5x4mm, Pitch 1.27mm, IPC High Density)
footprint LT-S8-8_M (SOIC, 8-Leads, Body 5x4mm, Pitch 1.27mm, IPC Low Density)
pins: 1 VOUT (power) "Regulated Output Voltage. VOUT is disconnected from VIN during shutdown. Bypass VOUT to ground with a >=10uF low ESR capacitor.", 2 C1- "Flying Capacitor One Negative Terminal.", 3 C1+ "Flying Capacitor One Positive Terminal.", 4 VIN (power) "Input Voltage. VIN may be between 2.4V and 6V. Bypass VIN to ground with a >=10uF low ESR capacitor.", 5 ~{SHDN}/SS (in) "Shutdown/Soft-Start Control. The pin is designed to be driven with an external open-drain output. Holding the S\H\D\N\/SS pin below 0.25V will force the part into shutdown mode. An internal pull-up current of 2uA will force (See Datasheet)", 6 C2+ "Flying Capacitor Two Positive Terminal.", 7 GND (power) "Ground. Connect to a ground plane for best performance.", 8 C2- "Flying Capacitor Two Negative Terminal."

## LTC1503IS8-2#PBF
designator U?
High Efficiency Inductorless Step-Down DC/DC Converter, 2.4 to 6 V Vin, 2 V Vout, 8-pin SOIC (S8-8), -40 to 85 degC, Pb-Free; Manufacturer: Linear Technology; PartNumber: LTC1503IS8-2#PBF; Frequency(kHz): 600; Ishutdown(uA): 5; Isupply(mA): 0.025; Max Iout(mA): 100; Vin Max(V): 6; Vin Min(V): 2.4; Voutput: 2V; PackageVersion: Rev. G, 03/2012; PackageReference: S8-8; PackageDescription: 8-Pin Plastic Small Outline (Narrow .150 Inch), Body 4.9 x 3.9 mm, Pitch 1.27 mm; Supplier 1: Digi-Key; Supplier Part Number 1: LTC1503IS8-2#PBF-ND; RoHS: TRUE; Mounting Technology: Surface Mount; ComponentLink1Description: Manufacturer URL; ComponentLink1URL: http://www.linear.com/; ComponentLink2Description: Datasheet; ComponentLink2URL: http://cds.linear.com/docs/en/datasheet/1503f.pdf; ComponentLink3Description: Package Specification; ComponentLink3URL: http://cds.linear.com/docs/en/packaging/05081610_G_SO8.pdf
footprint LT-S8-8_N (SOIC, 8-Leads, Body 5x4mm, Pitch 1.27mm, IPC Medium Density)
footprint LT-S8-8_L (SOIC, 8-Leads, Body 5x4mm, Pitch 1.27mm, IPC High Density)
footprint LT-S8-8_M (SOIC, 8-Leads, Body 5x4mm, Pitch 1.27mm, IPC Low Density)
pins: 1 VOUT (power) "Regulated Output Voltage. VOUT is disconnected from VIN during shutdown. Bypass VOUT to ground with a >=10uF low ESR capacitor.", 2 C1- "Flying Capacitor One Negative Terminal.", 3 C1+ "Flying Capacitor One Positive Terminal.", 4 VIN (power) "Input Voltage. VIN may be between 2.4V and 6V. Bypass VIN to ground with a >=10uF low ESR capacitor.", 5 ~{SHDN}/SS (in) "Shutdown/Soft-Start Control. The pin is designed to be driven with an external open-drain output. Holding the S\H\D\N\/SS pin below 0.25V will force the part into shutdown mode. An internal pull-up current of 2uA will force (See Datasheet)", 6 C2+ "Flying Capacitor Two Positive Terminal.", 7 GND (power) "Ground. Connect to a ground plane for best performance.", 8 C2- "Flying Capacitor Two Negative Terminal."

## LTC1503IS8-2#TR
designator U?
High Efficiency Inductorless Step-Down DC/DC Converter, 2.4 to 6 V Vin, 2 V Vout, 8-pin SOIC (S8-8), -40 to 85 degC, Tape and Reel; Manufacturer: Linear Technology; PartNumber: LTC1503IS8-2#TR; Frequency(kHz): 600; Ishutdown(uA): 5; Isupply(mA): 0.025; Max Iout(mA): 100; Vin Max(V): 6; Vin Min(V): 2.4; Voutput: 2V; PackageVersion: Rev. G, 03/2012; PackageReference: S8-8; PackageDescription: 8-Pin Plastic Small Outline (Narrow .150 Inch), Body 4.9 x 3.9 mm, Pitch 1.27 mm; Supplier 1: Digi-Key; Supplier Part Number 1: LTC1503IS8-2#TR-ND; Packing: Tape and Reel; RoHS: FALSE; Mounting Technology: Surface Mount; ComponentLink1Description: Manufacturer URL; ComponentLink1URL: http://www.linear.com/; ComponentLink2Description: Datasheet; ComponentLink2URL: http://cds.linear.com/docs/en/datasheet/1503f.pdf; ComponentLink3Description: Package Specification; ComponentLink3URL: http://cds.linear.com/docs/en/packaging/05081610_G_SO8.pdf
footprint LT-S8-8_N (SOIC, 8-Leads, Body 5x4mm, Pitch 1.27mm, IPC Medium Density)
footprint LT-S8-8_L (SOIC, 8-Leads, Body 5x4mm, Pitch 1.27mm, IPC High Density)
footprint LT-S8-8_M (SOIC, 8-Leads, Body 5x4mm, Pitch 1.27mm, IPC Low Density)
pins: 1 VOUT (power) "Regulated Output Voltage. VOUT is disconnected from VIN during shutdown. Bypass VOUT to ground with a >=10uF low ESR capacitor.", 2 C1- "Flying Capacitor One Negative Terminal.", 3 C1+ "Flying Capacitor One Positive Terminal.", 4 VIN (power) "Input Voltage. VIN may be between 2.4V and 6V. Bypass VIN to ground with a >=10uF low ESR capacitor.", 5 ~{SHDN}/SS (in) "Shutdown/Soft-Start Control. The pin is designed to be driven with an external open-drain output. Holding the S\H\D\N\/SS pin below 0.25V will force the part into shutdown mode. An internal pull-up current of 2uA will force (See Datasheet)", 6 C2+ "Flying Capacitor Two Positive Terminal.", 7 GND (power) "Ground. Connect to a ground plane for best performance.", 8 C2- "Flying Capacitor Two Negative Terminal."

## LTC1503IS8-2#TRPBF
designator U?
High Efficiency Inductorless Step-Down DC/DC Converter, 2.4 to 6 V Vin, 2 V Vout, 8-pin SOIC (S8-8), -40 to 85 degC, Pb-Free, Tape and Reel; Manufacturer: Linear Technology; PartNumber: LTC1503IS8-2#TRPBF; Frequency(kHz): 600; Ishutdown(uA): 5; Isupply(mA): 0.025; Max Iout(mA): 100; Vin Max(V): 6; Vin Min(V): 2.4; Voutput: 2V; PackageVersion: Rev. G, 03/2012; PackageReference: S8-8; PackageDescription: 8-Pin Plastic Small Outline (Narrow .150 Inch), Body 4.9 x 3.9 mm, Pitch 1.27 mm; Supplier 1: Digi-Key; Supplier Part Number 1: LTC1503IS8-2#TRPBF-ND; Packing: Tape and Reel; RoHS: TRUE; Mounting Technology: Surface Mount; ComponentLink1Description: Manufacturer URL; ComponentLink1URL: http://www.linear.com/; ComponentLink2Description: Datasheet; ComponentLink2URL: http://cds.linear.com/docs/en/datasheet/1503f.pdf; ComponentLink3Description: Package Specification; ComponentLink3URL: http://cds.linear.com/docs/en/packaging/05081610_G_SO8.pdf
footprint LT-S8-8_N (SOIC, 8-Leads, Body 5x4mm, Pitch 1.27mm, IPC Medium Density)
footprint LT-S8-8_L (SOIC, 8-Leads, Body 5x4mm, Pitch 1.27mm, IPC High Density)
footprint LT-S8-8_M (SOIC, 8-Leads, Body 5x4mm, Pitch 1.27mm, IPC Low Density)
pins: 1 VOUT (power) "Regulated Output Voltage. VOUT is disconnected from VIN during shutdown. Bypass VOUT to ground with a >=10uF low ESR capacitor.", 2 C1- "Flying Capacitor One Negative Terminal.", 3 C1+ "Flying Capacitor One Positive Terminal.", 4 VIN (power) "Input Voltage. VIN may be between 2.4V and 6V. Bypass VIN to ground with a >=10uF low ESR capacitor.", 5 ~{SHDN}/SS (in) "Shutdown/Soft-Start Control. The pin is designed to be driven with an external open-drain output. Holding the S\H\D\N\/SS pin below 0.25V will force the part into shutdown mode. An internal pull-up current of 2uA will force (See Datasheet)", 6 C2+ "Flying Capacitor Two Positive Terminal.", 7 GND (power) "Ground. Connect to a ground plane for best performance.", 8 C2- "Flying Capacitor Two Negative Terminal."

## LTC1514CS8-3.3
designator U?
Step-Up / Step-Down Switched Capacitor DC/DC Converter with Low-Battery Comparator, 2 to 8 V Vin, 3.3 V Vout, 8-pin SOIC (S8-8), 0 to 70 degC; Manufacturer: Linear Technology; PartNumber: LTC1514CS8-3.3; Frequency(kHz): 650; Ishutdown(uA): 10; Isupply(mA): 0.06; Max Iout(mA): 50; Vin Max(V): 8; Vin Min(V): 2; Voutput: 3.3V; PackageVersion: Rev. G, 03/2012; PackageReference: S8-8; PackageDescription: 8-Pin Plastic Small Outline (Narrow .150 Inch), Body 4.9 x 3.9 mm, Pitch 1.27 mm; Supplier 1: Digi-Key; Supplier Part Number 1: LTC1514CS8-3.3-ND; RoHS: FALSE; Mounting Technology: Surface Mount; ComponentLink1Description: Manufacturer URL; ComponentLink1URL: http://www.linear.com/; ComponentLink2Description: Datasheet; ComponentLink2URL: http://cds.linear.com/docs/en/datasheet/151435f.pdf; ComponentLink3Description: Package Specification; ComponentLink3URL: http://cds.linear.com/docs/en/packaging/05081610_G_SO8.pdf
footprint LT-S8-8_N (SOIC, 8-Leads, Body 5x4mm, Pitch 1.27mm, IPC Medium Density)
footprint LT-S8-8_L (SOIC, 8-Leads, Body 5x4mm, Pitch 1.27mm, IPC High Density)
footprint LT-S8-8_M (SOIC, 8-Leads, Body 5x4mm, Pitch 1.27mm, IPC Low Density)
pins: 1 ~{SHDN} (in) "Shutdown Input. A logic low on the S\H\D\N\ pin puts the part into shutdown mode. A logic high (VS\H\D\N\ >= 1.6V) enables the charge pump regulator. At high VIN voltages, the S\H\D\N\ pin may still be controlled with 3V (See Datasheet)", 2 LBO (oc) "Open-Drain, Low-Battery Comparator Output. This pin will pull low whenever the voltage on the LBI pin is less than the internal reference voltage (1.145V typ).", 3 LBI (in) "Low-Battery Comparator Input. The voltage on this pin is compared to the internal reference voltage (1.145V). The LBO output will sink current when the voltage on the LBI pin is less than 1.145V typ. The low-battery (See Datasheet)", 4 GND (power) "Ground. Should be tied to a ground plane for best performance.", 5 C1- "Charge Pump Flying Capacitor, Negative Terminal.", 6 C1+ "Charge Pump Flying Capacitor, Positive Terminal.", 7 VIN (power) "Charge Pump Input Voltage. May be between 2V and 8V (LTC1514-3.3) or between 2.7V and 10V (LTC1514-5). VIN should be bypassed with a >=10uF low ESR capacitor as close as possible to the pin for best performance.", 8 VOUT (power) "Regulated Output Voltage. The output voltage is internally set to either 3.3V (LTC1514-3.3) or to 5V (LTC1514-5) using an internal resistor divider. VOUT should be bypassed with a >=10uF low ESR capacitor as close as (See Datasheet)"

## LTC1514CS8-3.3#PBF
designator U?
Step-Up / Step-Down Switched Capacitor DC/DC Converter with Low-Battery Comparator, 2 to 8 V Vin, 3.3 V Vout, 8-pin SOIC (S8-8), 0 to 70 degC, Pb-Free; Manufacturer: Linear Technology; PartNumber: LTC1514CS8-3.3#PBF; Frequency(kHz): 650; Ishutdown(uA): 10; Isupply(mA): 0.06; Max Iout(mA): 50; Vin Max(V): 8; Vin Min(V): 2; Voutput: 3.3V; PackageVersion: Rev. G, 03/2012; PackageReference: S8-8; PackageDescription: 8-Pin Plastic Small Outline (Narrow .150 Inch), Body 4.9 x 3.9 mm, Pitch 1.27 mm; Supplier 1: Digi-Key; Supplier Part Number 1: LTC1514CS8-3.3#PBF-ND; RoHS: TRUE; Mounting Technology: Surface Mount; ComponentLink1Description: Manufacturer URL; ComponentLink1URL: http://www.linear.com/; ComponentLink2Description: Datasheet; ComponentLink2URL: http://cds.linear.com/docs/en/datasheet/151435f.pdf; ComponentLink3Description: Package Specification; ComponentLink3URL: http://cds.linear.com/docs/en/packaging/05081610_G_SO8.pdf
footprint LT-S8-8_N (SOIC, 8-Leads, Body 5x4mm, Pitch 1.27mm, IPC Medium Density)
footprint LT-S8-8_L (SOIC, 8-Leads, Body 5x4mm, Pitch 1.27mm, IPC High Density)
footprint LT-S8-8_M (SOIC, 8-Leads, Body 5x4mm, Pitch 1.27mm, IPC Low Density)
pins: 1 ~{SHDN} (in) "Shutdown Input. A logic low on the S\H\D\N\ pin puts the part into shutdown mode. A logic high (VS\H\D\N\ >= 1.6V) enables the charge pump regulator. At high VIN voltages, the S\H\D\N\ pin may still be controlled with 3V (See Datasheet)", 2 LBO (oc) "Open-Drain, Low-Battery Comparator Output. This pin will pull low whenever the voltage on the LBI pin is less than the internal reference voltage (1.145V typ).", 3 LBI (in) "Low-Battery Comparator Input. The voltage on this pin is compared to the internal reference voltage (1.145V). The LBO output will sink current when the voltage on the LBI pin is less than 1.145V typ. The low-battery (See Datasheet)", 4 GND (power) "Ground. Should be tied to a ground plane for best performance.", 5 C1- "Charge Pump Flying Capacitor, Negative Terminal.", 6 C1+ "Charge Pump Flying Capacitor, Positive Terminal.", 7 VIN (power) "Charge Pump Input Voltage. May be between 2V and 8V (LTC1514-3.3) or between 2.7V and 10V (LTC1514-5). VIN should be bypassed with a >=10uF low ESR capacitor as close as possible to the pin for best performance.", 8 VOUT (power) "Regulated Output Voltage. The output voltage is internally set to either 3.3V (LTC1514-3.3) or to 5V (LTC1514-5) using an internal resistor divider. VOUT should be bypassed with a >=10uF low ESR capacitor as close as (See Datasheet)"

## LTC1514CS8-3.3#TR
designator U?
Step-Up / Step-Down Switched Capacitor DC/DC Converter with Low-Battery Comparator, 2 to 8 V Vin, 3.3 V Vout, 8-pin SOIC (S8-8), 0 to 70 degC, Tape and Reel; Manufacturer: Linear Technology; PartNumber: LTC1514CS8-3.3#TR; Frequency(kHz): 650; Ishutdown(uA): 10; Isupply(mA): 0.06; Max Iout(mA): 50; Vin Max(V): 8; Vin Min(V): 2; Voutput: 3.3V; PackageVersion: Rev. G, 03/2012; PackageReference: S8-8; PackageDescription: 8-Pin Plastic Small Outline (Narrow .150 Inch), Body 4.9 x 3.9 mm, Pitch 1.27 mm; Supplier 1: Digi-Key; Supplier Part Number 1: LTC1514CS8-3.3#TR-ND; Packing: Tape and Reel; RoHS: FALSE; Mounting Technology: Surface Mount; ComponentLink1Description: Manufacturer URL; ComponentLink1URL: http://www.linear.com/; ComponentLink2Description: Datasheet; ComponentLink2URL: http://cds.linear.com/docs/en/datasheet/151435f.pdf; ComponentLink3Description: Package Specification; ComponentLink3URL: http://cds.linear.com/docs/en/packaging/05081610_G_SO8.pdf
footprint LT-S8-8_N (SOIC, 8-Leads, Body 5x4mm, Pitch 1.27mm, IPC Medium Density)
footprint LT-S8-8_L (SOIC, 8-Leads, Body 5x4mm, Pitch 1.27mm, IPC High Density)
footprint LT-S8-8_M (SOIC, 8-Leads, Body 5x4mm, Pitch 1.27mm, IPC Low Density)
pins: 1 ~{SHDN} (in) "Shutdown Input. A logic low on the S\H\D\N\ pin puts the part into shutdown mode. A logic high (VS\H\D\N\ >= 1.6V) enables the charge pump regulator. At high VIN voltages, the S\H\D\N\ pin may still be controlled with 3V (See Datasheet)", 2 LBO (oc) "Open-Drain, Low-Battery Comparator Output. This pin will pull low whenever the voltage on the LBI pin is less than the internal reference voltage (1.145V typ).", 3 LBI (in) "Low-Battery Comparator Input. The voltage on this pin is compared to the internal reference voltage (1.145V). The LBO output will sink current when the voltage on the LBI pin is less than 1.145V typ. The low-battery (See Datasheet)", 4 GND (power) "Ground. Should be tied to a ground plane for best performance.", 5 C1- "Charge Pump Flying Capacitor, Negative Terminal.", 6 C1+ "Charge Pump Flying Capacitor, Positive Terminal.", 7 VIN (power) "Charge Pump Input Voltage. May be between 2V and 8V (LTC1514-3.3) or between 2.7V and 10V (LTC1514-5). VIN should be bypassed with a >=10uF low ESR capacitor as close as possible to the pin for best performance.", 8 VOUT (power) "Regulated Output Voltage. The output voltage is internally set to either 3.3V (LTC1514-3.3) or to 5V (LTC1514-5) using an internal resistor divider. VOUT should be bypassed with a >=10uF low ESR capacitor as close as (See Datasheet)"

## LTC1514CS8-3.3#TRPBF
designator U?
Step-Up / Step-Down Switched Capacitor DC/DC Converter with Low-Battery Comparator, 2 to 8 V Vin, 3.3 V Vout, 8-pin SOIC (S8-8), 0 to 70 degC, Pb-Free, Tape and Reel; Manufacturer: Linear Technology; PartNumber: LTC1514CS8-3.3#TRPBF; Frequency(kHz): 650; Ishutdown(uA): 10; Isupply(mA): 0.06; Max Iout(mA): 50; Vin Max(V): 8; Vin Min(V): 2; Voutput: 3.3V; PackageVersion: Rev. G, 03/2012; PackageReference: S8-8; PackageDescription: 8-Pin Plastic Small Outline (Narrow .150 Inch), Body 4.9 x 3.9 mm, Pitch 1.27 mm; Supplier 1: Digi-Key; Supplier Part Number 1: LTC1514CS8-3.3#TRPBF-ND; Packing: Tape and Reel; RoHS: TRUE; Mounting Technology: Surface Mount; ComponentLink1Description: Manufacturer URL; ComponentLink1URL: http://www.linear.com/; ComponentLink2Description: Datasheet; ComponentLink2URL: http://cds.linear.com/docs/en/datasheet/151435f.pdf; ComponentLink3Description: Package Specification; ComponentLink3URL: http://cds.linear.com/docs/en/packaging/05081610_G_SO8.pdf
footprint LT-S8-8_N (SOIC, 8-Leads, Body 5x4mm, Pitch 1.27mm, IPC Medium Density)
footprint LT-S8-8_L (SOIC, 8-Leads, Body 5x4mm, Pitch 1.27mm, IPC High Density)
footprint LT-S8-8_M (SOIC, 8-Leads, Body 5x4mm, Pitch 1.27mm, IPC Low Density)
pins: 1 ~{SHDN} (in) "Shutdown Input. A logic low on the S\H\D\N\ pin puts the part into shutdown mode. A logic high (VS\H\D\N\ >= 1.6V) enables the charge pump regulator. At high VIN voltages, the S\H\D\N\ pin may still be controlled with 3V (See Datasheet)", 2 LBO (oc) "Open-Drain, Low-Battery Comparator Output. This pin will pull low whenever the voltage on the LBI pin is less than the internal reference voltage (1.145V typ).", 3 LBI (in) "Low-Battery Comparator Input. The voltage on this pin is compared to the internal reference voltage (1.145V). The LBO output will sink current when the voltage on the LBI pin is less than 1.145V typ. The low-battery (See Datasheet)", 4 GND (power) "Ground. Should be tied to a ground plane for best performance.", 5 C1- "Charge Pump Flying Capacitor, Negative Terminal.", 6 C1+ "Charge Pump Flying Capacitor, Positive Terminal.", 7 VIN (power) "Charge Pump Input Voltage. May be between 2V and 8V (LTC1514-3.3) or between 2.7V and 10V (LTC1514-5). VIN should be bypassed with a >=10uF low ESR capacitor as close as possible to the pin for best performance.", 8 VOUT (power) "Regulated Output Voltage. The output voltage is internally set to either 3.3V (LTC1514-3.3) or to 5V (LTC1514-5) using an internal resistor divider. VOUT should be bypassed with a >=10uF low ESR capacitor as close as (See Datasheet)"

## LTC1514CS8-5
designator U?
Step-Up / Step-Down Switched Capacitor DC/DC Converter with Low-Battery Comparator, 2.7 to 10 V Vin, 5 V Vout, 8-pin SOIC (S8-8), 0 to 70 degC; Manufacturer: Linear Technology; PartNumber: LTC1514CS8-5; Frequency(kHz): 650; Ishutdown(uA): 10; Isupply(mA): 0.06; Max Iout(mA): 50; Vin Min(V): 2.7; Voutput: 5V; PackageVersion: Rev. G, 03/2012; PackageReference: S8-8; PackageDescription: 8-Pin Plastic Small Outline (Narrow .150 Inch), Body 4.9 x 3.9 mm, Pitch 1.27 mm; Supplier 1: Digi-Key; Supplier Part Number 1: LTC1514CS8-5-ND; RoHS: FALSE; Vin Max(V): 10; Mounting Technology: Surface Mount; ComponentLink1Description: Manufacturer URL; ComponentLink1URL: http://www.linear.com/; ComponentLink2Description: Datasheet; ComponentLink2URL: http://cds.linear.com/docs/en/datasheet/151435f.pdf; ComponentLink3Description: Package Specification; ComponentLink3URL: http://cds.linear.com/docs/en/packaging/05081610_G_SO8.pdf
footprint LT-S8-8_N (SOIC, 8-Leads, Body 5x4mm, Pitch 1.27mm, IPC Medium Density)
footprint LT-S8-8_L (SOIC, 8-Leads, Body 5x4mm, Pitch 1.27mm, IPC High Density)
footprint LT-S8-8_M (SOIC, 8-Leads, Body 5x4mm, Pitch 1.27mm, IPC Low Density)
pins: 1 ~{SHDN} (in) "Shutdown Input. A logic low on the S\H\D\N\ pin puts the part into shutdown mode. A logic high (VS\H\D\N\ >= 1.6V) enables the charge pump regulator. At high VIN voltages, the S\H\D\N\ pin may still be controlled with 3V (See Datasheet)", 2 LBO (oc) "Open-Drain, Low-Battery Comparator Output. This pin will pull low whenever the voltage on the LBI pin is less than the internal reference voltage (1.145V typ).", 3 LBI (in) "Low-Battery Comparator Input. The voltage on this pin is compared to the internal reference voltage (1.145V). The LBO output will sink current when the voltage on the LBI pin is less than 1.145V typ. The low-battery (See Datasheet)", 4 GND (power) "Ground. Should be tied to a ground plane for best performance.", 5 C1- "Charge Pump Flying Capacitor, Negative Terminal.", 6 C1+ "Charge Pump Flying Capacitor, Positive Terminal.", 7 VIN (power) "Charge Pump Input Voltage. May be between 2V and 8V (LTC1514-3.3) or between 2.7V and 10V (LTC1514-5). VIN should be bypassed with a >=10uF low ESR capacitor as close as possible to the pin for best performance.", 8 VOUT (power) "Regulated Output Voltage. The output voltage is internally set to either 3.3V (LTC1514-3.3) or to 5V (LTC1514-5) using an internal resistor divider. VOUT should be bypassed with a >=10uF low ESR capacitor as close as (See Datasheet)"